# Altium schematic symbol library Sensor_Humidity.SchLib: 1 symbol
Pins are listed as number, name and electrical type; pins without a type are passive.

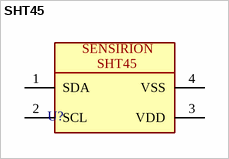
[diagram p0: symbol SHT45]

## SHT45
designator U?
-40℃~+125℃ 0%RH~100%RH 1.08V~3.6V 16bit 400nA I2C ±0.1℃ ±1%RH DFN-4 Temperature and Humidity Sensor ROHS; Manufacturer 1: Sensirion; Manufacturer Part Number 1: *; Supplier 1: *; Supplier Part Number 1: *; Value: *; Package: DFN-4
footprint SHT4X
pins: 1 SDA, 2 SCL, 3 VDD, 4 VSS
text: SENSIRION